# Altium schematic symbol library ISO1042.Schlib: 1 symbol
Pins are listed as number, name and electrical type; pins without a type are passive.

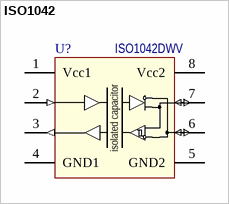
[diagram p0: symbol ISO1042]

## ISO1042
designator U?  Наименование: ISO1042DWV  (hidden comment: ISO1042)
Isolated CAN Transceiver; Назначение: Изолированный CAN приемник; Потребление, Вт: 0,001
footprint SOIC-8-WIDE (SOIC, 8-Leads, Body 5,85x7,50mm, Pitch 1,27mm, IPC Medium Density)
pins: 1 Vcc1 (power), 2 TXD (in), 3 RXD (out), 4 GND1 (power), 5 GND2 (power), 6 CANL (io) "CAN LOW", 7 CANH (io) "CAN HIGHT", 8 Vcc2 (power)
text: isolated capacitor